# EAGLE library part CON-1X9 (library steves)
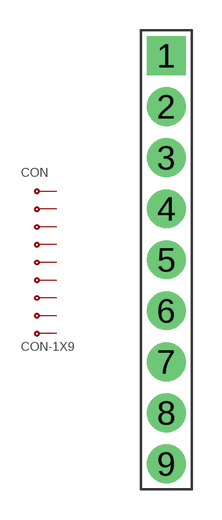
[diagram p41: symbol with the pads of CON-HDR-1X9; footprint CON-HDR-1X9]

Designator prefix CON

## CON-1X9  [CON-HDR-1X9]
1  1  pas
2  2  pas
3  3  pas
4  4  pas
5  5  pas
6  6  pas
7  7  pas
8  8  pas
9  9  pas

## Footprint CON-HDR-1X9 (pad centres in mm)
drill 0.9 pad 1.93 square: 1 0,10.16
drill 0.9 pad 1.93: 2 0,7.62; 3 0,5.08; 4 0,2.54; 5 0,0; 6 0,-2.54; 7 0,-5.08; 8 0,-7.62; 9 0,-10.16